# Altium footprint library PcbLib2.PcbLib: 1 footprints
Each footprint in its own frame and in the unit in brackets; x right, y up, seen from the top. Pads: shape width x height; smd on the part's side, far side on the other; paste and mask are expansions set on the pad; w line width, h text height; cw(c..) or ccw(c..) is an arc to the next point about the centre after c.
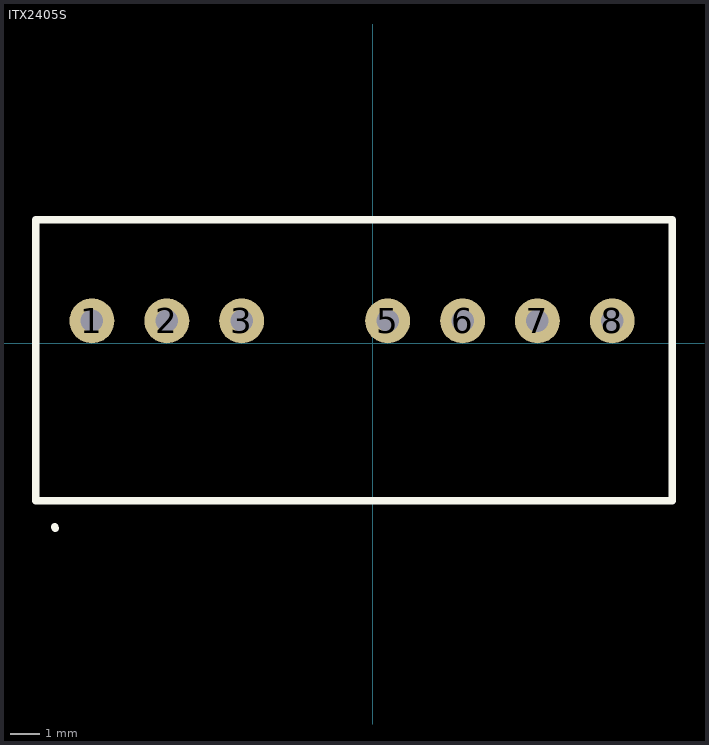
[diagram p0: the footprint, top view; thin cyan lines are the x and y axes]

## ITX2405S [mil] "ITX2405S"
pads (7):
  round 60 hole 30: 1(-375,30) 2(-275,30) 3(-175,30) 5(20,30) 6(120,30) 7(220,30) 8(320,30)
Top Overlay:
  lines w10: -425,-245 -424,-247 ; -450,-210 400,-210 400,165 -450,165 -450,-210